# Altium schematic symbol library chip components.SchLib: 4 symbols
Pins are listed as number, name and electrical type; pins without a type are passive.

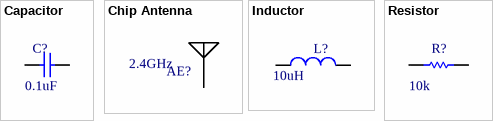
[diagram p0: symbols Capacitor to Resistor]

## Capacitor
designator C?, comment value 0.1uF  (hidden comment: Cap)
Chip Capacitor
footprint 1206
footprint 0805
footprint 0603
footprint 0402
pins: 1, 2

## Chip Antenna
designator AE?  Operating Frequency: 2.4GHz  (hidden comment: Chip Antenna)
Value: 10uH
footprint 1206
footprint 0805
pins: 1

## Inductor
designator L?  value 10uH  (hidden comment: Inductor)
Chip Inductor
footprint 1206
footprint 0805
footprint 0603
footprint 0402
pins: 1, 2

## Resistor
designator R?  value 10k  (hidden comment: Resistor)
Chip Resistor
footprint 1206
footprint 0805
footprint 0603
footprint 0402
pins: 1, 2